# EAGLE library part TPS65217C (library eagle-book)
Texas Instruments' Single-chip Power Management IC
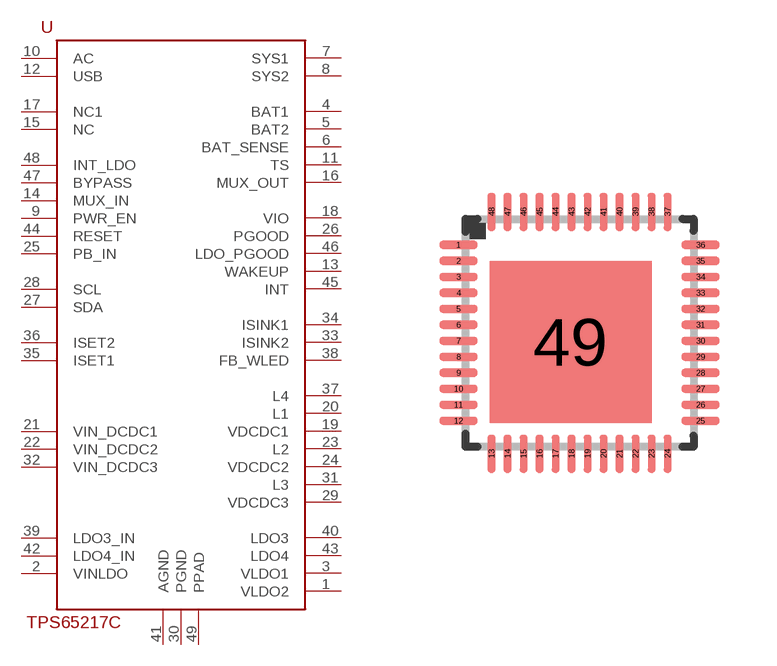
[diagram p14: symbol with the pads of S-PVQFN-N48; footprint S-PVQFN-N48]

Designator prefix U

## TPS65217C  [S-PVQFN-N48]
1  VLDO2
2  VINLDO
3  VLDO1
4  BAT1
5  BAT2
6  BAT_SENSE
7  SYS1
8  SYS2
9  PWR_EN
10  AC
11  TS
12  USB
13  WAKEUP
14  MUX_IN
15  NC  nc
16  MUX_OUT
17  NC1  nc
18  VIO  pwr
19  VDCDC1  pwr
20  L1
21  VIN_DCDC1  pwr
22  VIN_DCDC2  pwr
23  L2
24  VDCDC2  pwr
25  PB_IN
26  PGOOD
27  SDA
28  SCL
29  VDCDC3  pwr
30  PGND  pwr
31  L3
32  VIN_DCDC3  pwr
33  ISINK2
34  ISINK1
35  ISET1
36  ISET2
37  L4
38  FB_WLED
39  LDO3_IN
40  LDO3
41  AGND  pwr
42  LDO4_IN
43  LDO4
44  RESET
45  INT
46  LDO_PGOOD
47  BYPASS
48  INT_LDO
49  PPAD  pwr

## Footprint S-PVQFN-N48 (pad centres in mm)
48-pin Plastic Quad Flat Package, No-Lead
smd 0.95 x 0.2: 1 -3.025,2.2; 2 -3.025,1.8; 3 -3.025,1.4; 4 -3.025,1; 5 -3.025,0.6; 6 -3.025,0.2; 7 -3.025,-0.2; 8 -3.025,-0.6; 9 -3.025,-1; 10 -3.025,-1.4; 11 -3.025,-1.8; 12 -3.025,-2.2; 25 3.025,-2.2; 26 3.025,-1.8; 27 3.025,-1.4; 28 3.025,-1; 29 3.025,-0.6; 30 3.025,-0.2; 31 3.025,0.2; 32 3.025,0.6; 33 3.025,1; 34 3.025,1.4; 35 3.025,1.8; 36 3.025,2.2
smd 0.2 x 0.95: 13 -2.2,-3.025; 14 -1.8,-3.025; 15 -1.4,-3.025; 16 -1,-3.025; 17 -0.6,-3.025; 18 -0.2,-3.025; 19 0.2,-3.025; 20 0.6,-3.025; 21 1,-3.025; 22 1.4,-3.025; 23 1.8,-3.025; 24 2.2,-3.025; 37 2.2,3.025; 38 1.8,3.025; 39 1.4,3.025; 40 1,3.025; 41 0.6,3.025; 42 0.2,3.025; 43 -0.2,3.025; 44 -0.6,3.025; 45 -1,3.025; 46 -1.4,3.025; 47 -1.8,3.025; 48 -2.2,3.025
smd 4.05 x 4.05: 49 -0.225,-0.225